# Altium footprint library LD_EDFA.PcbLib: 280 footprints (part 2 of 18)
Each footprint in its own frame and in the unit in brackets; x right, y up, seen from the top. Pads: shape width x height; smd on the part's side, far side on the other; paste and mask are expansions set on the pad; w line width, h text height; cw(c..) or ccw(c..) is an arc to the next point about the centre after c.
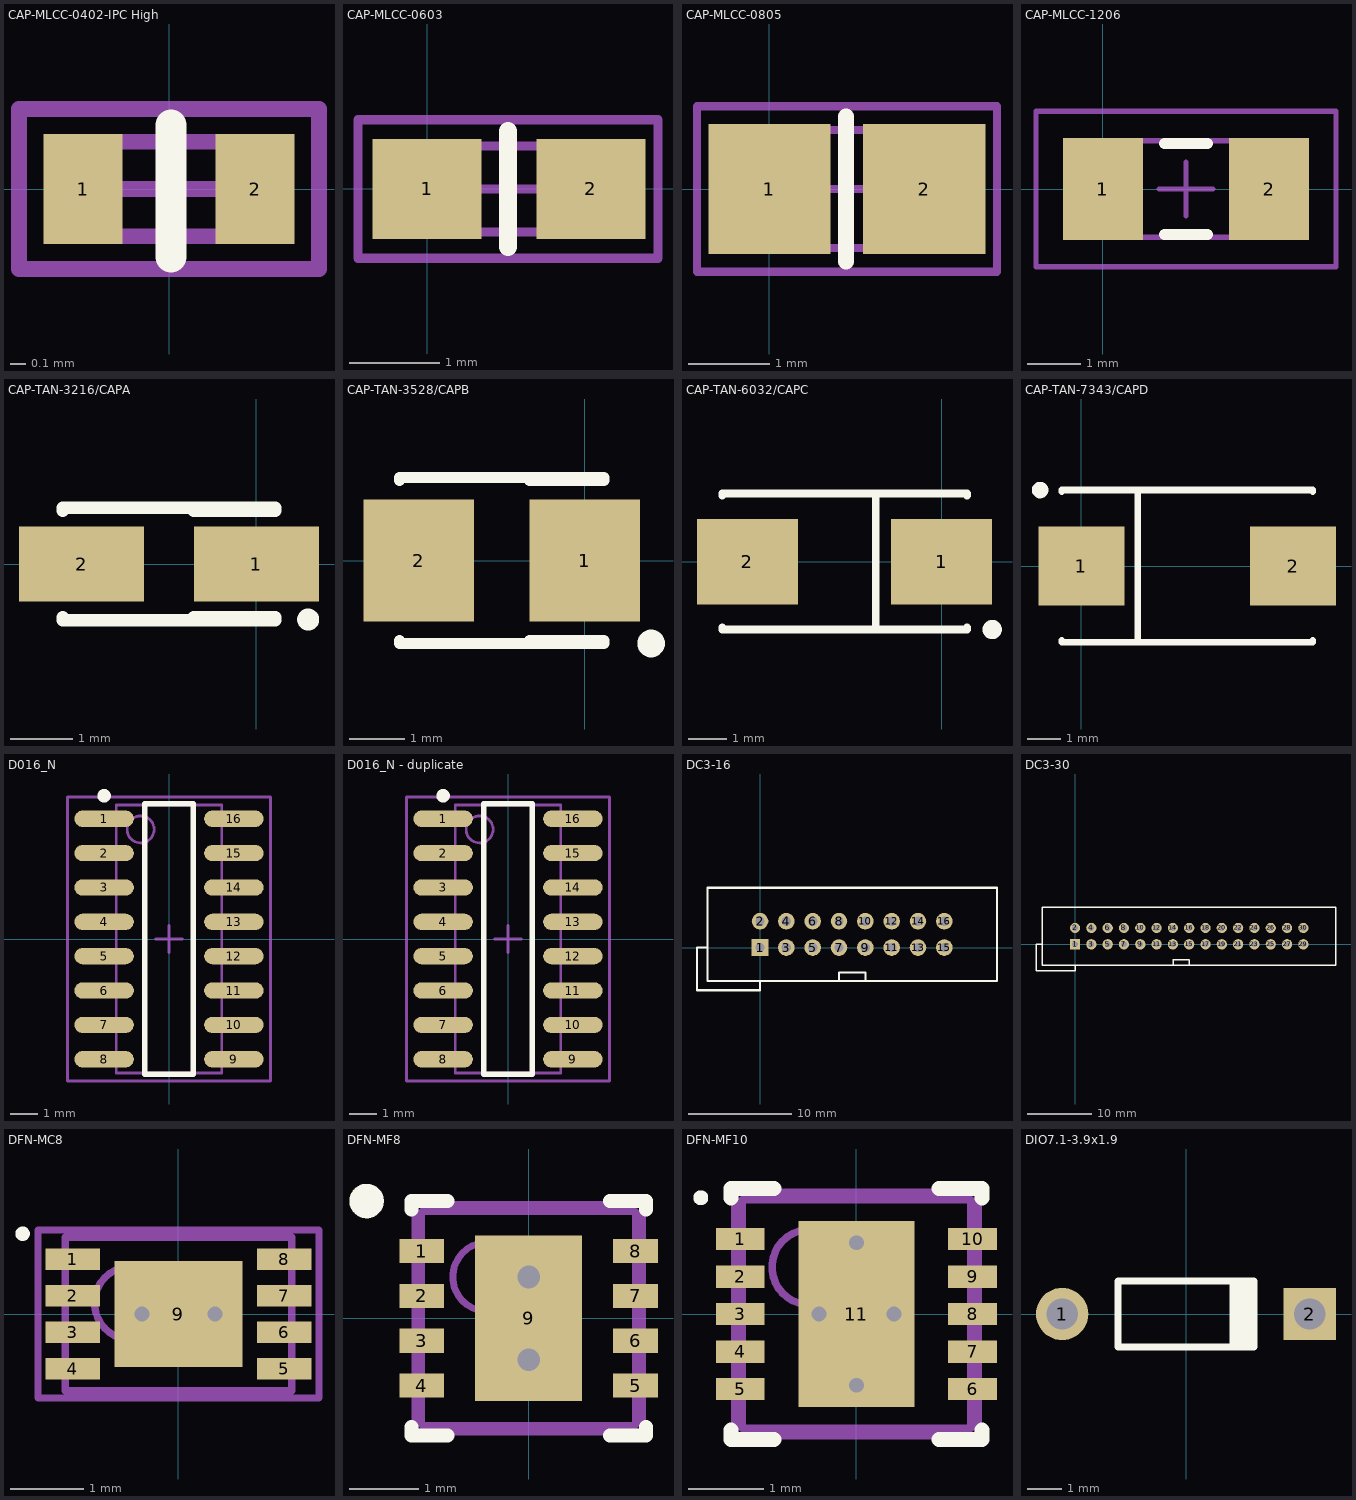
[diagram p1: the footprints below, top view; thin cyan lines are the x and y axes]

## CAP-MLCC-0402-IPC High [mm]
pads (2):
  rect 0.5x0.7 smd: 1(-0.546,0) 2(0.546,0)
Top Overlay:
  lines w0.2: 0.013,-0.432 0.013,0.406
Mechanical 13:
  lines w0.1: -0.549,-0.3 -0.549,0.3 0.552,0.3 0.552,-0.3 -0.549,-0.3
Mechanical 15:
  lines w0.1: -0.299,0 0.302,0 ; 0.002,-0.3 0.002,0.3 ; -0.953,-0.508 0.953,-0.508 0.953,0.508 -0.953,0.508 -0.953,-0.508
3D body: height 0.6, standoff 0, extent -0.549,-0.3 0.551,0.3

## CAP-MLCC-0603 [mm]
pads (2):
  rect 1.2x1.1 smd: 1(0,0) 2(1.8,0)
Top Overlay:
  lines w0.2: 0.889,-0.635 0.889,0.635
Mechanical 13:
  lines w0.1: 0.025,-0.475 1.775,-0.475 1.775,0.475 0.025,0.475 0.025,-0.475
Mechanical 15:
  lines w0.1: 0.425,0 1.375,0 ; 0.9,-0.475 0.9,0.475 ; -0.762,-0.762 2.54,-0.762 2.54,0.762 -0.762,0.762 -0.762,-0.762
3D body: height 0.85, standoff 0, extent 0.025,-0.475 1.775,0.475

## CAP-MLCC-0805 [mm]
pads (2):
  rect 1.5x1.6 smd: 1(0,0) 2(1.9,0)
Top Overlay:
  lines w0.2: 0.94,-0.889 0.94,0.889
Mechanical 13:
  lines w0.1: -0.15,-0.725 2.05,-0.725 2.05,0.725 -0.15,0.725 -0.15,-0.725
Mechanical 15:
  lines w0.1: 0.45,0 1.45,0 ; 0.95,-0.5 0.95,0.5 ; -0.889,-1.016 2.794,-1.016 2.794,1.016 -0.889,1.016 -0.889,-1.016
3D body: height 1.1, standoff 0, extent -0.15,-0.725 2.05,0.725

## CAP-MLCC-1206 [mm]
pads (2):
  rect 1.5x1.9 smd: 1(0,0) 2(3.1,0)
Top Overlay:
  lines w0.2: 1.15,-0.85 1.95,-0.85 ; 1.15,0.85 1.95,0.85
Mechanical 13:
  lines w0.1: -0.15,-0.9 -0.15,0.9 3.25,0.9 3.25,-0.9 -0.15,-0.9
Mechanical 15:
  lines w0.1: 1.05,0 2.05,0 ; 1.55,-0.5 1.55,0.5 ; -1.25,-1.45 -1.25,1.45 4.35,1.45 4.35,-1.45 -1.25,-1.45
3D body: height 1.35, standoff 0, extent -0.15,-0.9 3.25,0.9

## CAP-TAN-3216/CAPA [mm]
pads (2):
  rect 2x1.2 smd: 1(0,0) 2(-2.8,0)
Top Overlay:
  circle w0.25: c0.827,-0.889 r0.051
  lines w0.2: -3.1,-0.85 -3.1,-0.9 0.3,-0.9 ; -3.1,0.85 -3.1,0.9 0.3,0.9 ; -1,-0.85 0.3,-0.85 ; -1,0.85 0.3,0.85

## CAP-TAN-3528/CAPB [mm]
pads (2):
  rect 2x2.2 smd: 1(0,0) 2(-3,0)
Top Overlay:
  circle w0.25: c1.2,-1.5 r0.125
  lines w0.2: -3.35,-1.45 -3.35,-1.5 0.35,-1.5 ; -3.35,1.45 -3.35,1.5 0.35,1.5 ; -1,-1.45 0.35,-1.45 ; -1,1.45 0.35,1.45

## CAP-TAN-6032/CAPC [mm]
pads (2):
  rect 2.6x2.2 smd: 1(0,0) 2(-5,0)
Top Overlay:
  circle w0.25: c1.3,-1.75 r0.125
  lines w0.2: -5.65,-1.7 -5.65,-1.75 0.65,-1.75 0.65,-1.7 ; -5.65,1.7 -5.65,1.75 0.65,1.75 0.65,1.7 ; -1.7,-1.75 -1.7,1.75

## CAP-TAN-7343/CAPD [mm]
pads (2):
  rect 2.6x2.4 smd: 1(0,0) 2(6.4,0)
Top Overlay:
  circle w0.25: c-1.25,2.3 r0.125
  lines w0.2: -0.6,-2.25 -0.6,-2.3 7,-2.3 7,-2.25 ; -0.6,2.25 -0.6,2.3 7,2.3 7,2.25 ; 1.7,-2.3 1.7,2.3

## D016_N [mm] "16-Pin Small Outline Integrated Circuit 1.27 mm Pitch, IPC Medium Density"
height 1.75
pads (16):
  oval 2.2x0.6 smd: 1(-2.4,4.445) 2(-2.4,3.175) 3(-2.4,1.905) 4(-2.4,0.635) 5(-2.4,-0.635) 6(-2.4,-1.905) 7(-2.4,-3.175) 8(-2.4,-4.445) 9(2.4,-4.445) 10(2.4,-3.175) 11(2.4,-1.905) 12(2.4,-0.635) 13(2.4,0.635) 14(2.4,1.905) 15(2.4,3.175) 16(2.4,4.445)
Top Overlay:
  circle w0.25: c-2.4,5.295 r0.125
  lines w0.2: -0.9,-5 0.9,-5 0.9,5 -0.9,5 -0.9,-5
Mechanical 13:
  circle w0.1: c-1.05,4.05 r0.5
  lines w0.1: -1.95,-4.95 1.95,-4.95 1.95,4.95 -1.95,4.95 -1.95,-4.95
Mechanical 15:
  lines w0.1: -0.5,0 0.5,0 ; 0,-0.5 0,0.5 ; -3.75,-5.25 3.75,-5.25 3.75,5.25 -3.75,5.25 -3.75,-5.25
3D body: height 1.75, standoff 0, extent -1.95,-4.95 1.95,4.95

## D016_N - duplicate [mm] "16-Pin Small Outline Integrated Circuit 1.27 mm Pitch, IPC Medium Density"
height 1.75
pads (16):
  oval 2.2x0.6 smd: 1(-2.4,4.445) 2(-2.4,3.175) 3(-2.4,1.905) 4(-2.4,0.635) 5(-2.4,-0.635) 6(-2.4,-1.905) 7(-2.4,-3.175) 8(-2.4,-4.445) 9(2.4,-4.445) 10(2.4,-3.175) 11(2.4,-1.905) 12(2.4,-0.635) 13(2.4,0.635) 14(2.4,1.905) 15(2.4,3.175) 16(2.4,4.445)
Top Overlay:
  circle w0.25: c-2.4,5.295 r0.125
  lines w0.2: -0.9,-5 0.9,-5 0.9,5 -0.9,5 -0.9,-5
Mechanical 13:
  circle w0.1: c-1.05,4.05 r0.5
  lines w0.1: -1.95,-4.95 1.95,-4.95 1.95,4.95 -1.95,4.95 -1.95,-4.95
Mechanical 15:
  lines w0.1: -0.5,0 0.5,0 ; 0,-0.5 0,0.5 ; -3.75,-5.25 3.75,-5.25 3.75,5.25 -3.75,5.25 -3.75,-5.25
3D body: height 1.75, standoff 0, extent -1.95,-4.95 1.95,4.95

## DC3-16 [mm]
height 1.3
pads (16):
  rect 1.6x1.6 hole 0.9: 1(0,0)
  round 1.6 hole 0.9: 2(0,2.54) 3(2.54,0) 4(2.54,2.54) 5(5.08,0) 6(5.08,2.54) 7(7.62,0) 8(7.62,2.54) 9(10.16,0) 10(10.16,2.54) 11(12.7,0) 12(12.7,2.54) 13(15.24,0) 14(15.24,2.54) 15(17.78,0) 16(17.78,2.54)
Top Overlay:
  lines w0.2: -5.08,0 -6.08,0 -6.08,-4.123 0,-4.123 0,-3.23 ; -5.08,-3.23 22.86,-3.23 22.86,5.77 -5.08,5.77 -5.08,-3.23
  lines w0.203: 7.602,-2.415 10.167,-2.415 ; 7.627,-3.23 7.627,-2.39 ; 10.192,-3.23 10.192,-2.39

## DC3-30 [mm]
height 1.3
pads (30):
  rect 1.6x1.6 hole 0.9: 1(0,0)
  round 1.6 hole 0.9: 2(0,2.54) 3(2.54,0) 4(2.54,2.54) 5(5.08,0) 6(5.08,2.54) 7(7.62,0) 8(7.62,2.54) 9(10.16,0) 10(10.16,2.54) 11(12.7,0) 12(12.7,2.54) 13(15.24,0) 14(15.24,2.54) 15(17.78,0) 16(17.78,2.54) 17(20.32,0) 18(20.32,2.54) 19(22.86,0) 20(22.86,2.54) 21(25.4,0) 22(25.4,2.54) 23(27.94,0) 24(27.94,2.54) 25(30.48,0) 26(30.48,2.54) 27(33.02,0) 28(33.02,2.54) 29(35.56,0) 30(35.56,2.54)
Top Overlay:
  lines w0.2: -5.08,0 -6.08,0 -6.08,-4.123 0,-4.123 0,-3.23 ; -5.08,-3.23 40.64,-3.23 40.64,5.77 -5.08,5.77 -5.08,-3.23
  lines w0.203: 15.232,-2.405 17.797,-2.405 ; 15.257,-3.22 15.257,-2.38 ; 17.792,-3.22 17.792,-2.38

## DFN-MC8 [mm] "SON, 8-Leads, Body 2x3mm, Pitch 0.5mm, Microchip Recommended"
height 1
pads (9):
  rect 0.75x0.3 smd: 1(-1.45,0.75) 2(-1.45,0.25) 3(-1.45,-0.25) 4(-1.45,-0.75) 5(1.45,-0.75) 6(1.45,-0.25) 7(1.45,0.25) 8(1.45,0.75)
  rect 1.75x1.45 smd: 9(0,0)
via -0.5,0 diameter 0.5 hole 0.2
via 0.5,0 diameter 0.5 hole 0.2
Top Overlay:
  circle w0.1: c-2.135,1.1 r0.05
Mechanical 13:
  circle w0.1: c-0.65,0.15 r0.5
  lines w0.1: -1.55,-1.05 1.55,-1.05 1.55,1.05 -1.55,1.05 -1.55,-1.05
Mechanical 15:
  lines w0.1: -0.5,0 0.5,0 ; 0,-0.5 0,0.5 ; -1.925,-1.15 1.925,-1.15 1.925,1.15 -1.925,1.15 -1.925,-1.15
3D body: height 1, standoff 0, extent -1.549,-1.049 1.549,1.049

## DFN-MF8 [mm] "SON, 8-Leads, Body 3x3mm, Pitch 0.65mm, Microchip Recommended"
height 1
pads (9):
  rect 0.65x0.35 smd: 1(-1.55,0.975) 2(-1.55,0.325) 3(-1.55,-0.325) 4(-1.55,-0.975) 5(1.55,-0.975) 6(1.55,-0.325) 7(1.55,0.325) 8(1.55,0.975)
  rect 1.55x2.4 smd: 9(0,0)
via 0,-0.6 diameter 0.66 hole 0.33
via 0,0.6 diameter 0.66 hole 0.33
Top Overlay:
  circle w0.25: c-2.35,1.7 r0.125
  lines w0.2: -1.7,-1.575 -1.7,-1.7 -1.175,-1.7 ; -1.7,1.575 -1.7,1.7 -1.175,1.7 ; 1.175,-1.7 1.7,-1.7 1.7,-1.575 ; 1.175,1.7 1.7,1.7 1.7,1.575
Mechanical 13:
  circle w0.1: c-0.6,0.6 r0.5
  lines w0.1: -1.55,-1.55 1.55,-1.55 1.55,1.55 -1.55,1.55 -1.55,-1.55
Mechanical 15:
  lines w0.1: -0.5,0 0.5,0 ; 0,-0.5 0,0.5 ; -1.65,-1.65 1.65,-1.65 1.65,1.65 -1.65,1.65 -1.65,-1.65
3D body: height 1, standoff 0, extent -1.55,-1.55 1.55,1.55

## DFN-MF10 [mm] "SON, 10-Leads, Body 3x3mm, Pitch 0.5mm, Microchip Recommended"
height 1
pads (11):
  rect 0.65x0.3 smd: 1(-1.55,1) 2(-1.55,0.5) 3(-1.55,0) 4(-1.55,-0.5) 5(-1.55,-1) 6(1.55,-1) 7(1.55,-0.5) 8(1.55,0) 9(1.55,0.5) 10(1.55,1)
  rect 1.55x2.48 smd: 11(0,0)
via 0,-0.95 diameter 0.5 hole 0.2
via 0,0.95 diameter 0.5 hole 0.2
via 0.5,0 diameter 0.5 hole 0.2
via -0.5,0 diameter 0.5 hole 0.2
Top Overlay:
  circle w0.1: c-2.075,1.55 r0.05
  lines w0.2: -1.675,-1.55 -1.675,-1.675 -1.1,-1.675 ; -1.675,1.55 -1.675,1.675 -1.1,1.675 ; 1.1,-1.675 1.675,-1.675 1.675,-1.55 ; 1.1,1.675 1.675,1.675 1.675,1.55
Mechanical 13:
  circle w0.1: c-0.625,0.625 r0.5
  lines w0.1: -1.525,-1.525 1.525,-1.525 1.525,1.525 -1.525,1.525 -1.525,-1.525
Mechanical 15:
  lines w0.1: -0.5,0 0.5,0 ; 0,-0.5 0,0.5 ; -1.625,-1.625 -1.625,1.625 1.625,1.625 1.625,-1.625 -1.625,-1.625
3D body: height 1, standoff 0, extent -1.524,-1.524 1.524,1.524

## DIO7.1-3.9x1.9 [mm] "Diode, Axial; Body 3.8 x 1.9 mm (LxDia. max), Lead Dia. 0.53 mm (max)"
height 1.9
pads (2):
  round 1.5 hole 0.9: 1(-3.55,0)
  rect 1.5x1.5 hole 0.9: 2(3.55,0)
Top Overlay:
  rectangle: 1.25,-0.95 2.05,0.95
  lines w0.2: 1.95,-0.95 -1.95,-0.95 -1.95,0.95 1.95,0.95